# EAGLE library part LM3488 (library JLB6_power)
Low side N channel Switching controller
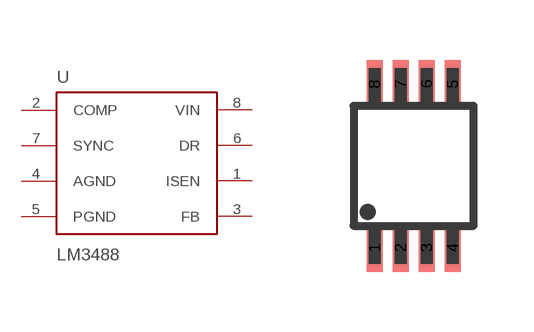
[diagram p5: symbol with the pads of MSOP8; footprint MSOP8]

Designator prefix U

## LM3488  [MSOP8]
1  ISEN  in
2  COMP
3  FB  in
4  AGND  pwr
5  PGND  pwr
6  DR  out
7  SYNC
8  VIN  in

## Footprint MSOP8 (pad centres in mm)
smd 0.4 x 1.2: 1 -0.975,-2.05; 2 -0.325,-2.05; 3 0.325,-2.05; 4 0.975,-2.05; 5 0.975,2.05; 6 0.325,2.05; 7 -0.325,2.05; 8 -0.975,2.05